# Altium schematic symbol library Schlib1.SchLib: 21 symbols
Pins are listed as number, name and electrical type; pins without a type are passive.

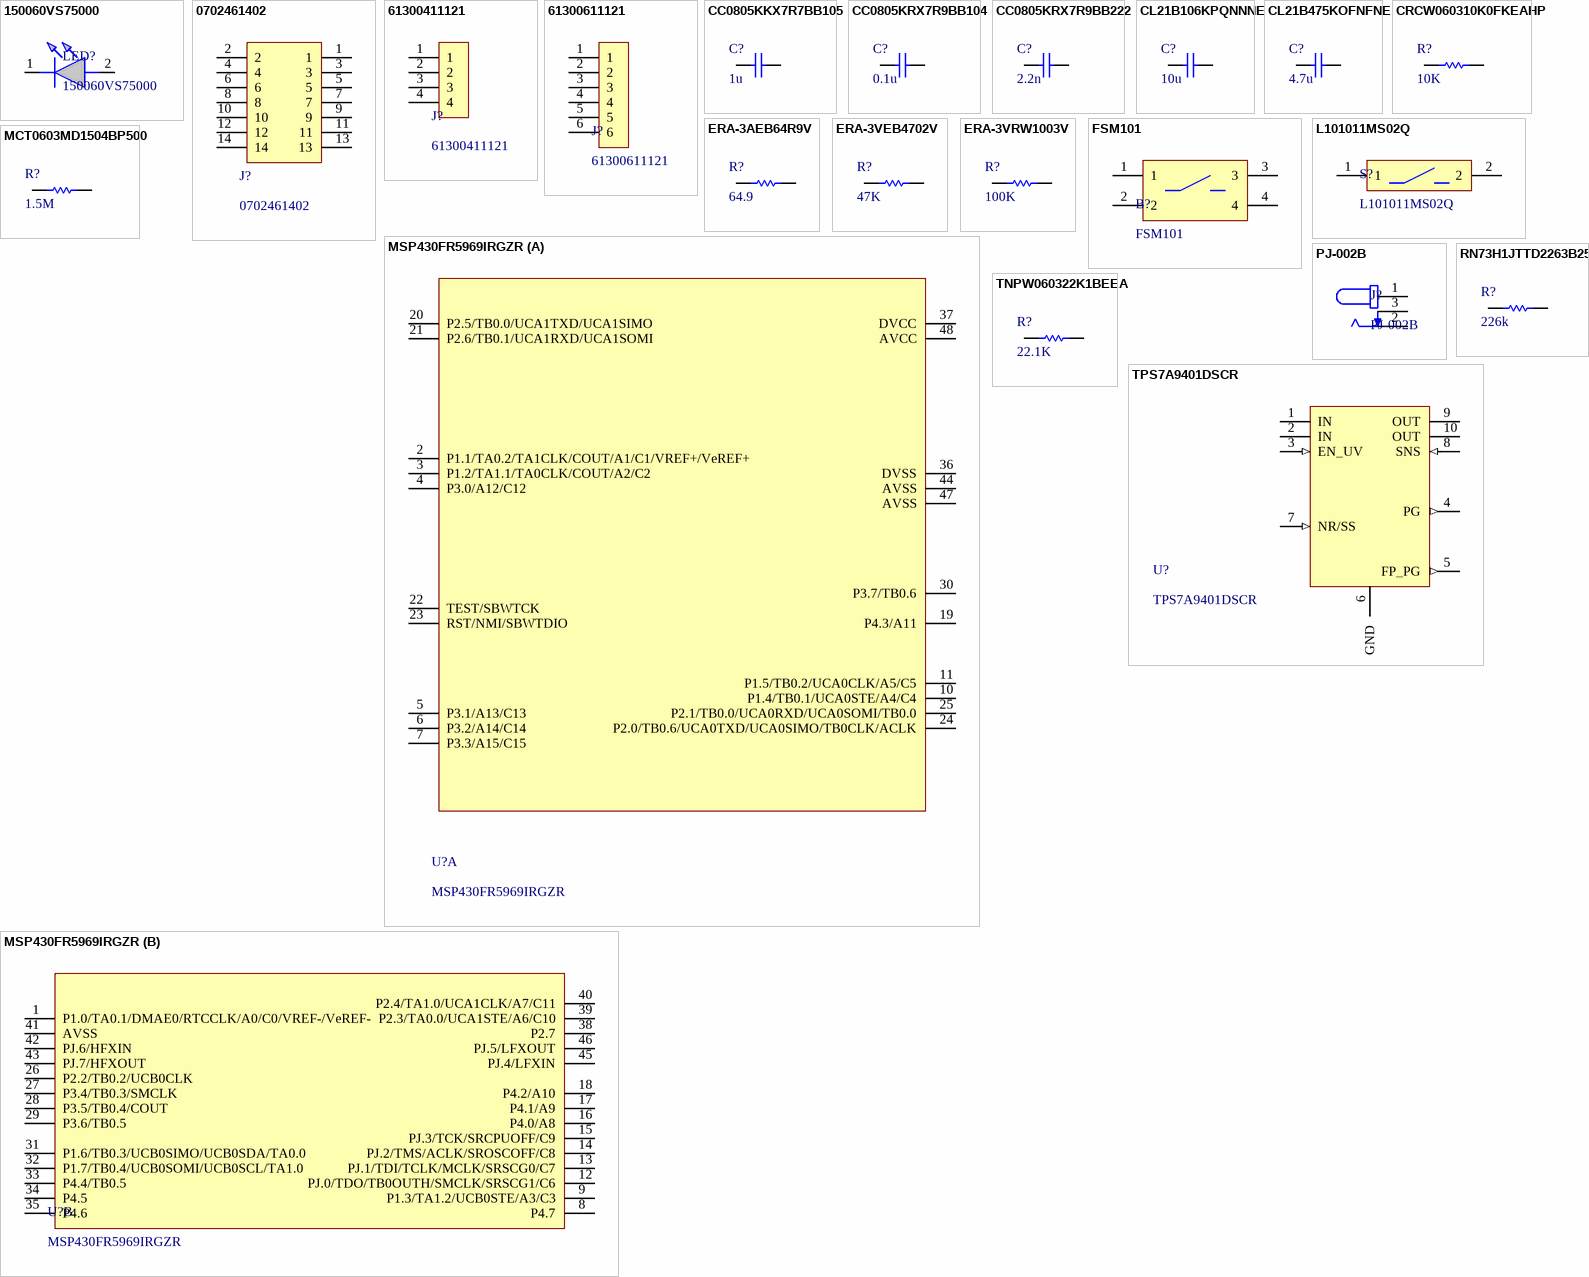
[diagram p0: symbols 150060VS75000 to TPS7A9401DSCR]

## 150060VS75000
designator LED?
LED GREEN CLEAR 0603 SMD
footprint 150060VS75000 (LED GREEN CLEAR 0603 SMD)
pins: 1 K, 2 A

## 0702461402
designator J?
Connector Header Through Hole 14 position 0.100" (2.54mm)
footprint 0702461402 (Connector Header Through Hole 14 position 0.100" (2.54mm))
pins: 1, 2, 3, 4, 5, 6, 7, 8, 9, 10, 11, 12, 13, 14

## 61300411121
designator J?
Connector Header Through Hole 4 position 0.100" (2.54mm)
footprint 61300411121 (Connector Header Through Hole 4 position 0.100" (2.54mm))
pins: 1, 2, 3, 4

## 61300611121
designator J?
CONN HEADER VERT 6POS 2.54MM
footprint 61300611121 (Connector Header Through Hole 6 position 0.100" (2.54mm))
pins: 1, 2, 3, 4, 5, 6

## CC0805KKX7R7BB105
designator C?, comment 1u
1 µF ±10% 16V Ceramic Capacitor X7R 0805 (2012 Metric); value: 1u
footprint 0805 Cap (Chip Capacitor, 2-Leads, Body 2.00x1.25mm, IPC Medium Density)
pins: 1, 2

## CC0805KRX7R9BB104
designator C?, comment 0.1u
0.1 µF ±10% 50V Ceramic Capacitor X7R 0805 (2012 Metric); value: 0.1u
footprint 0805 Cap (Chip Capacitor, 2-Leads, Body 2.00x1.25mm, IPC Medium Density)
pins: 1, 2

## CC0805KRX7R9BB222
designator C?, comment 2.2n
2200 pF ±10% 50V Ceramic Capacitor X7R 0805 (2012 Metric); value: 2.2n
footprint 0805 Cap (Chip Capacitor, 2-Leads, Body 2.00x1.25mm, IPC Medium Density)
pins: 1, 2

## CL21B106KPQNNNE
designator C?, comment 10u
10 µF ±10% 10V Ceramic Capacitor X7R 0805 (2012 Metric); value: 10u
footprint 0805 Cap (Chip Capacitor, 2-Leads, Body 2.00x1.25mm, IPC Medium Density)
pins: 1, 2

## CL21B475KOFNFNE
designator C?, comment 4.7u
4.7 µF ±10% 16V Ceramic Capacitor X7R 0805 (2012 Metric); value: 4.7u
footprint 0805 Cap (Chip Capacitor, 2-Leads, Body 2.00x1.25mm, IPC Medium Density)
pins: 1, 2

## CRCW060310K0FKEAHP
designator R?, comment 10K
RES SMD 10K OHM 1% 1/3W 0603; value: 10K
footprint RESC1608X06N (Chip Resistor, 2-Leads, Body 1.60x0.80mm, IPC Medium Density)
pins: 1, 2

## ERA-3AEB64R9V
designator R?, comment 64.9
Thin Film Resistors - SMD 0603 64.9ohm 0.1% 25ppm; value: 64.9
footprint RESC1608X06N (Chip Resistor, 2-Leads, Body 1.60x0.80mm, IPC Medium Density)
pins: 1, 2

## ERA-3VEB4702V
designator R?, comment 47K
Thin Film Resistors - SMD 0603 0.1% 47Kohm 25ppm SMD; value: 47K
footprint RESC1608X06N (Chip Resistor, 2-Leads, Body 1.60x0.80mm, IPC Medium Density)
pins: 1, 2

## ERA-3VRW1003V
designator R?, comment 100K
Thin Film Resistors - SMD 0603 0.05% 100Kohm 10ppm SMD; value: 100K
footprint RESC1608X06N (Chip Resistor, 2-Leads, Body 1.60x0.80mm, IPC Medium Density)
pins: 1, 2

## FSM101
designator B?
Tactile Switch SPST-NO Top Actuated Through Hole
footprint FSM101 (Tactile Switch SPST-NO Top Actuated Through Hole)
pins: 1, 2, 3, 4

## L101011MS02Q
designator S?
SWITCH SLIDE SPST 4A 125V
footprint L101011MS02Q (SWITCH SLIDE SPST 4A 125V)
pins: 1, 2

## MCT0603MD1504BP500
designator R?, comment 1.5M
Thin Film Resistors - SMD .125W 1.5Mohms .1% 0603 25ppm; value: 1.5M
footprint RESC1608X06N (Chip Resistor, 2-Leads, Body 1.60x0.80mm, IPC Medium Density)
pins: 1, 2

## MSP430FR5969IRGZR
designator U?
MSP430 CPUXV2 MSP430™ FRAM Microcontroller IC 16-Bit 16MHz 64KB (64K x 8) FRAM 48-VQFN (7x7)
footprint MSP430FR5969IRGZR (MSP430 CPUXV2 MSP430™ FRAM Microcontroller IC 16-Bit 16MHz 64KB (64K x 8) FRAM 48-VQFN (7x7))
part A pins: 2 P1.1/TA0.2/TA1CLK/COUT/A1/C1/VREF+/VeREF+, 3 P1.2/TA1.1/TA0CLK/COUT/A2/C2, 4 P3.0/A12/C12, 5 P3.1/A13/C13, 6 P3.2/A14/C14, 7 P3.3/A15/C15, 10 P1.4/TB0.1/UCA0STE/A4/C4, 11 P1.5/TB0.2/UCA0CLK/A5/C5, 19 P4.3/A11, 20 P2.5/TB0.0/UCA1TXD/UCA1SIMO, 21 P2.6/TB0.1/UCA1RXD/UCA1SOMI, 22 TEST/SBWTCK, 23 RST/NMI/SBWTDIO, 24 P2.0/TB0.6/UCA0TXD/UCA0SIMO/TB0CLK/ACLK, 25 P2.1/TB0.0/UCA0RXD/UCA0SOMI/TB0.0, 30 P3.7/TB0.6, 36 DVSS, 37 DVCC, 44 AVSS, 47 AVSS, 48 AVCC
part B pins: 1 P1.0/TA0.1/DMAE0/RTCCLK/A0/C0/VREF-/VeREF-, 8 P4.7, 9 P1.3/TA1.2/UCB0STE/A3/C3, 12 PJ.0/TDO/TB0OUTH/SMCLK/SRSCG1/C6, 13 PJ.1/TDI/TCLK/MCLK/SRSCG0/C7, 14 PJ.2/TMS/ACLK/SROSCOFF/C8, 15 PJ.3/TCK/SRCPUOFF/C9, 16 P4.0/A8, 17 P4.1/A9, 18 P4.2/A10, 26 P2.2/TB0.2/UCB0CLK, 27 P3.4/TB0.3/SMCLK, 28 P3.5/TB0.4/COUT, 29 P3.6/TB0.5, 31 P1.6/TB0.3/UCB0SIMO/UCB0SDA/TA0.0, 32 P1.7/TB0.4/UCB0SOMI/UCB0SCL/TA1.0, 33 P4.4/TB0.5, 34 P4.5, 35 P4.6, 38 P2.7, 39 P2.3/TA0.0/UCA1STE/A6/C10, 40 P2.4/TA1.0/UCA1CLK/A7/C11, 41 AVSS, 42 PJ.6/HFXIN, 43 PJ.7/HFXOUT, 45 PJ.4/LFXIN, 46 PJ.5/LFXOUT

## PJ-002B
designator J?
Power Barrel Connector Jack 2.50mm ID (0.098"), 5.50mm OD (0.217") Through Hole, Right Angle
footprint PJ-002B (Power Barrel Connector Jack 2.50mm ID (0.098"), 5.50mm OD (0.217") Through Hole, Right Angle)
pins: 1, 2, 3

## RN73H1JTTD2263B25
designator R?, comment 226k
Thin Film Resistors - SMD 226kOhm,0603,0.1%,25; value: 226k
footprint RESC1608X06N (Chip Resistor, 2-Leads, Body 1.60x0.80mm, IPC Medium Density)
pins: 1, 2

## TNPW060322K1BEEA
designator R?, comment 22.1K
Thin Film Resistors - SMD 22.1Kohms .1% 25ppm; value: 22.1K
footprint RESC1608X06N (Chip Resistor, 2-Leads, Body 1.60x0.80mm, IPC Medium Density)
pins: 1, 2

## TPS7A9401DSCR
designator U?
Linear Voltage Regulator IC Positive Adjustable 1 Output 1A 10-WSON (3x3); Manufacturer: Texas Instruments; Manufacturer PN: TPS7A9401DSCR
footprint TPS7A9401DSCR (Linear Voltage Regulator IC Positive Adjustable 1 Output 1A 10-WSON (3x3))
pins: 1 IN (power), 2 IN (power), 3 EN_UV (in), 4 PG (out), 5 FP_PG (out), 6 GND (power), 7 NR/SS (in), 8 SNS (in), 9 OUT, 10 OUT